# Altium footprint library SOT-669.PcbLib: 2 footprints
Each footprint in its own frame and in the unit in brackets; x right, y up, seen from the top. Pads: shape width x height; smd on the part's side, far side on the other; paste and mask are expansions set on the pad; w line width, h text height; cw(c..) or ccw(c..) is an arc to the next point about the centre after c.
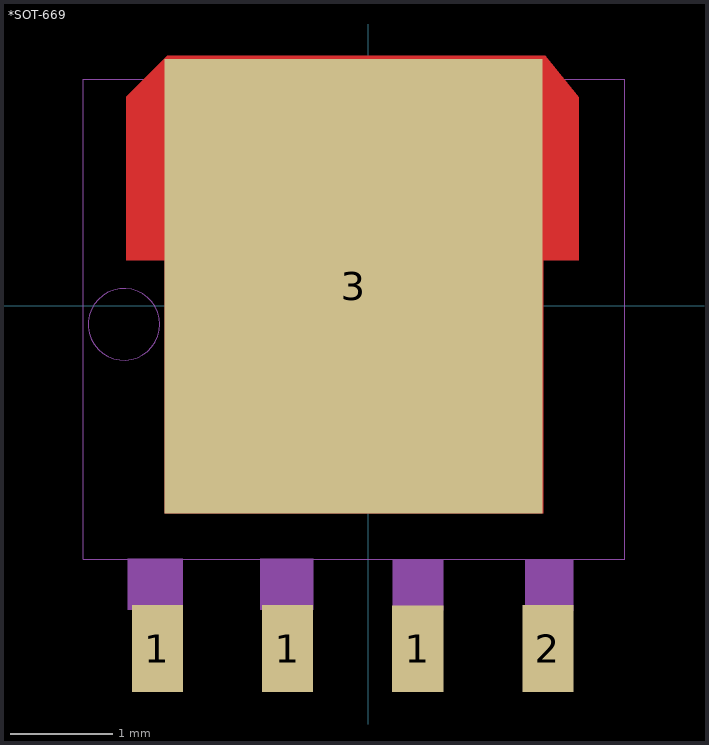
[diagram p0: the footprints below, top view; thin cyan lines are the x and y axes]

## *SOT-669 [mm]
pads (5):
  rect 0.5x0.85 smd: 1(-2.064,-3.353) 1(-0.79,-3.353) 1(0.483,-3.354) 2(1.757,-3.354)
  rect 3.7x4.45 smd: 3(-0.145,0.193)
Top Layer:
  region: -1.74,2.42 -1.99,2.37 -1.99,-2.03 1.71,-2.03 1.71,2.37 1.46,2.42
  region: -2.368,0.448 2.057,0.448 2.057,2.043 1.732,2.448 -1.968,2.448 -2.368,2.048
Mechanical 4:
  drawing of 26 lines, arcs and shapes, not listed

## PCBComponent_1 [mm]